# EAGLE library part PAPILIO-WING (library 0Robin)
Papilio Wing 8-8-4-4
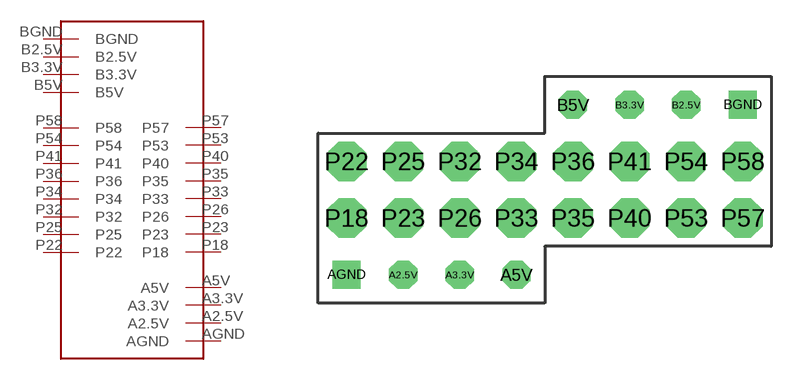
[diagram p5: symbol with the pads of 8X2_4X2; footprint 8X2_4X2]

Designator prefix -

## PAPILIO-WING  [8X2_4X2]
A2.5V  A2.5V
A3.3V  A3.3V
A5V  A5V
AGND  AGND
B2.5V  B2.5V
B3.3V  B3.3V
B5V  B5V
BGND  BGND
P18  P18
P22  P22
P23  P23
P25  P25
P26  P26
P32  P32
P33  P33
P34  P34
P35  P35
P36  P36
P40  P40
P41  P41
P53  P53
P54  P54
P57  P57
P58  P58

## Footprint 8X2_4X2 (pad centres in mm)
drill 0.254 pad 1.27 octagon: A2.5V -6.35,-3.81; A3.3V -3.81,-3.81; A5V -1.27,-3.81; B2.5V 6.35,3.81; B3.3V 3.81,3.81; B5V 1.27,3.81
drill 0.254 pad 1.27 square: AGND -8.89,-3.81; BGND 8.89,3.81
drill 0.254 pad 1.778 octagon: P18 -8.89,-1.27; P22 -8.89,1.27; P23 -6.35,-1.27; P25 -6.35,1.27; P26 -3.81,-1.27; P32 -3.81,1.27; P33 -1.27,-1.27; P34 -1.27,1.27; P35 1.27,-1.27; P36 1.27,1.27; P40 3.81,-1.27; P41 3.81,1.27; P53 6.35,-1.27; P54 6.35,1.27; P57 8.89,-1.27; P58 8.89,1.27